# Altium schematic symbol library 原理图库1.SCHLIB: 13 symbols
Pins are listed as number, name and electrical type; pins without a type are passive.

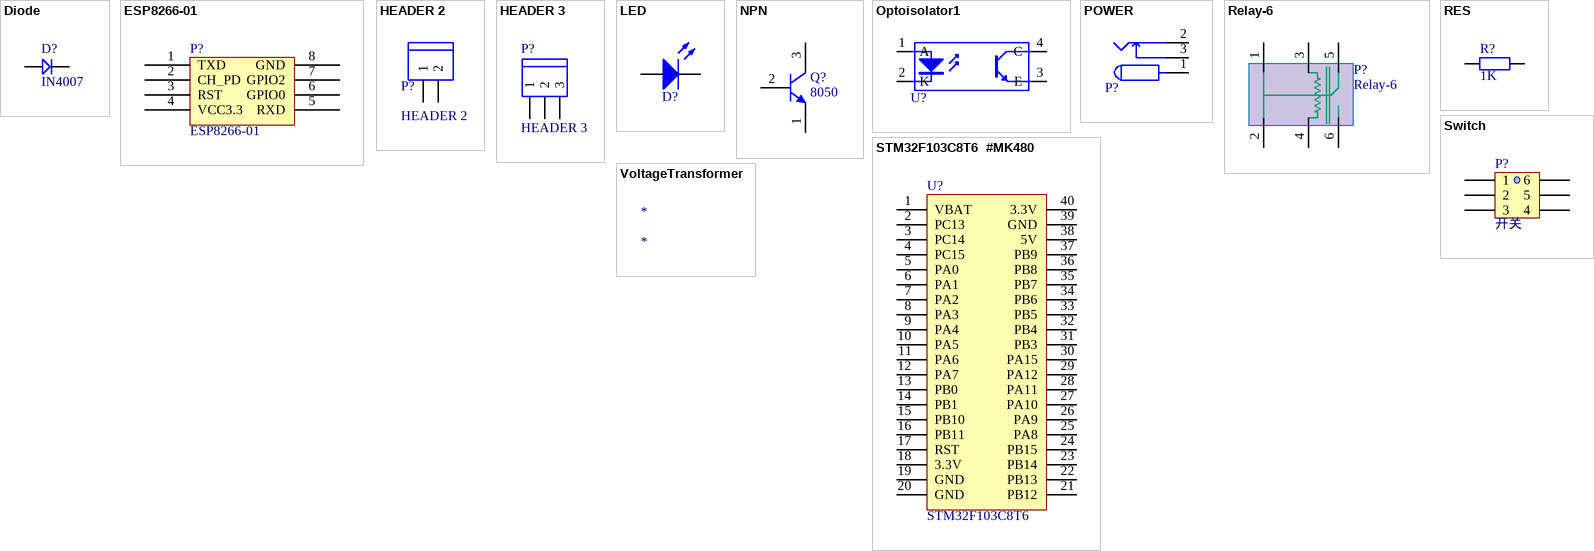
[diagram p0: symbols Diode to VoltageTransformer]

## Diode
designator D?  value IN4007  (hidden comment: Diode)
footprint IN4148
footprint RES-4
footprint M7
footprint SS34-c
pins: 1, 2

## ESP8266-01
designator P?
8PIN
footprint ESP8266-01
pins: 1 TXD, 2 CH_PD, 3 RST, 4 VCC3.3, 5 RXD, 6 GPIO0, 7 GPIO2, 8 GND

## HEADER 2
designator P?
footprint HEADER2 1.0 (Footprint not found)
pins: 1, ?1 2

## HEADER 3
designator P?
footprint HEADER3  1.2
pins: 1, 2, 3

## LED
designator D?  (value not drawn)
footprint LED
footprint LED0805
pins: 1 A, 2 K

## NPN
designator Q?  value 8050  (hidden comment: NPN)
footprint TO-92
pins: 1 2, 2 B, 3 C

## Optoisolator1
designator U?  (value not drawn)
4PIN
footprint DIP-4
pins: 1 A "Anode", 2 K "Cathode", 3 E "Emitter", 4 C "Collector"

## POWER
designator P?, comment 电源插座  (value not drawn)
3PIN
footprint DC 5.5-2.1mm
footprint DC 3.5-1.3mm
pins: 1, 2, 3

## Relay-6
designator P?
6PIN
footprint Relay-6pin
pins: 1, 2, 3, 4, 5, 6

## RES
designator R?  value 1K  (hidden comment: RES)
footprint R0805
footprint R0603
footprint RES-4
footprint RES-A1
pins: 1, 2

## STM32F103C8T6  #MK480
designator U?, comment STM32F103C8T6
40PIN
footprint STM32F103C8T6 #MK48
pins: 1 VBAT, 2 PC13, 3 PC14, 4 PC15, 5 PA0, 6 PA1, 7 PA2, 8 PA3, 9 PA4, 10 PA5, 11 PA6, 12 PA7, 13 PB0, 14 PB1, 15 PB10, 16 PB11, 17 RST, 18 3.3V, 19 GND, 20 GND, 21 PB12, 22 PB13, 23 PB14, 24 PB15, 25 PA8, 26 PA9, 27 PA10, 28 PA11, 29 PA12, 30 PA15, 31 PB3, 32 PB4, 33 PB5, 34 PB6, 35 PB7, 36 PB8, 37 PB9, 38 5V, 39 GND, 40 3.3V

## Switch
designator P?, comment 开关
footprint Switch
pins: 1, 2, 3, 4, 5, 6

## VoltageTransformer
designator *